# EAGLE library part VMUSIC2 (library machine_science)
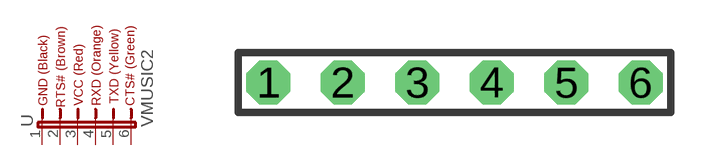
[diagram p22: symbol with the pads of J6; footprint J6]

Designator prefix -

## VMUSIC2  [J6]
1  1  pas
2  2  pas
3  3  pas
4  4  pas
5  5  pas
6  6  pas

## Footprint J6 (pad centres in mm)
drill 0.991 octagon: 1 -6.35,1.27; 2 -3.81,1.27; 3 -1.27,1.27; 4 1.27,1.27; 5 3.81,1.27; 6 6.35,1.27